# EAGLE library part SAMTEC-TW-20-D (library Traficon)
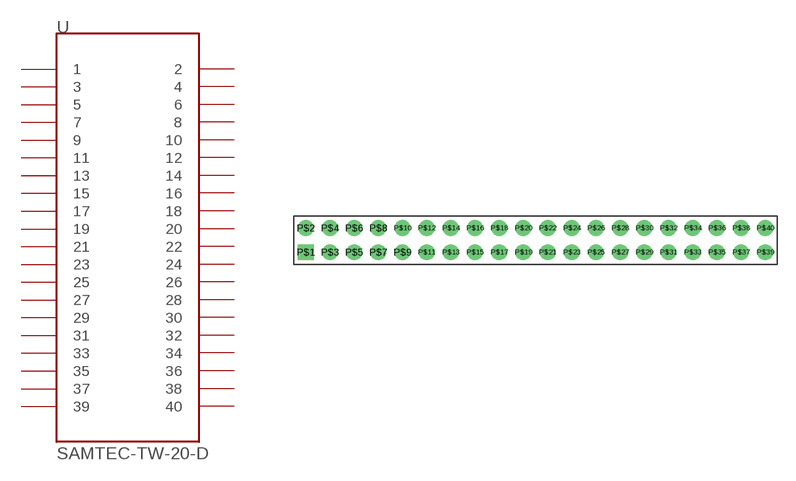
[diagram p250: symbol with the pads of SAMTEC-TW-20-D; footprint SAMTEC-TW-20-D]

Designator prefix -

## SAMTEC-TW-20-D  [SAMTEC-TW-20-D]
P$1  1
P$2  2
P$3  3
P$4  4
P$5  5
P$6  6
P$7  7
P$8  8
P$9  9
P$10  10
P$11  11
P$12  12
P$13  13
P$14  14
P$15  15
P$16  16
P$17  17
P$18  18
P$19  19
P$20  20
P$21  21
P$22  22
P$23  23
P$24  24
P$25  25
P$26  26
P$27  27
P$28  28
P$29  29
P$30  30
P$31  31
P$32  32
P$33  33
P$34  34
P$35  35
P$36  36
P$37  37
P$38  38
P$39  39
P$40  40

## Footprint SAMTEC-TW-20-D (pad centres in mm)
drill 0.8 square: P$1 -19,-1
drill 0.8 round: P$2 -19,1; P$3 -17,-1; P$4 -17,1; P$5 -15,-1; P$6 -15,1; P$7 -13,-1; P$8 -13,1; P$9 -11,-1; P$10 -11,1; P$11 -9,-1; P$12 -9,1; P$13 -7,-1; P$14 -7,1; P$15 -5,-1; P$16 -5,1; P$17 -3,-1; P$18 -3,1; P$19 -1,-1; P$20 -1,1; P$21 1,-1; P$22 1,1; P$23 3,-1; P$24 3,1; P$25 5,-1; P$26 5,1; P$27 7,-1; P$28 7,1; P$29 9,-1; P$30 9,1; P$31 11,-1; P$32 11,1; P$33 13,-1; P$34 13,1; P$35 15,-1; P$36 15,1; P$37 17,-1; P$38 17,1; P$39 19,-1; P$40 19,1